# Altium schematic symbol library PCF8574DGVR.SchLib: 1 symbol
Pins are listed as number, name and electrical type; pins without a type are passive.

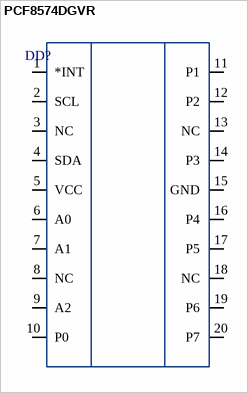
[diagram p0: symbol PCF8574DGVR]

## PCF8574DGVR
designator DD?  (value not drawn)
Remote 8-Bit I/O Expander for I2C-Bus; Manufacturer: Texas Instruments; INDUSTRY_STD_PKG_TYPE: TVSOP; FAMILY_NAME: I2C IO EXPANDER; PIN_COUNT: 20; PACKAGE_DESIGNATOR: DGV; Datasheet_URL: http://www.ti.com/lit/gpn/PCF8574; GENERIC_PART_NUMBER: PCF8574; Vendor: Texas Instruments; Manufacturer_Part_Number: PCF8574DGVR; Copyright: Copyright (C) 2018 Accelerated Designs. All rights reserved; RefDes: RefDes; Type: DEV
footprint DGV20
pins: 1 *INT, 2 SCL, 3 NC, 4 SDA, 5 VCC, 6 A0, 7 A1, 8 NC, 9 A2, 10 P0, 11 P1, 12 P2, 13 NC, 14 P3, 15 GND, 16 P4, 17 P5, 18 NC, 19 P6, 20 P7